# Altium schematic symbol library LED's.SchLib: 7 symbols
Pins are listed as number, name and electrical type; pins without a type are passive.

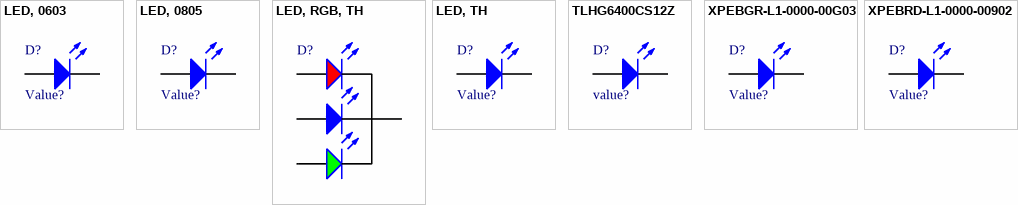
[diagram p0: symbols LED, 0603 to XPEBRD-L1-0000-00902]

## LED, 0603
designator D?, comment Value?
LED, 0603, SMD; TargetLibrary: RITRacing-LED's; Publisher: T.Tallo; Published: 22Oct2016; Status: Active; Value: Value?
footprint LED, 0603 (Generic 0603 SMD)
pins: 1 A, 2 K

## LED, 0805
designator D?, comment Value?
LED, 0805, SMD; TargetLibrary: RITRacing-LED's; Publisher: T.Tallo; Published: 22Oct2016; Status: Active; Value: Value?
footprint LED, 0603 (Generic 0603 SMD)
pins: 1 A, 2 K

## LED, RGB, TH
designator D?, comment RBG  (value not drawn)
LED, 5.9mm, TH; TargetLibrary: RITRacing-LED's; Publisher: T.Tallo; Published: 22Oct2016; Status: Active; Value: RBG
footprint LED, RGB, TH (Through Hole LED)
pins: 1 Red Anode, 2 Cathode, 3 Blue Anode, 4 Green Anode

## LED, TH
designator D?, comment Value?
LED, 5mm, TH; TargetLibrary: RITRacing-LED's; Publisher: T.Tallo; Published: 22Oct2016; Status: Active; Value: Value?
footprint LED, TH (Through Hole LED)
pins: 1 A, 2 K

## TLHG6400CS12Z
designator D?, comment value?
LED Uni-Color Green 565nm 2-Pin T-1 3/4 T/R; Manufacturer 1: Vishay Semiconductors; Manufacturer Part Number 1: TLHG6400CS12Z; Lens Style: Round,Domed,Diffused,Colored,Circular; Viewing Angle: 60°; Luminous Intensity: 10mcd; Forward Current: 30mA; Forward Voltage: 2.4V; Test Current: 10mA; Dominant Wavelength: 569nm; Number of Elements: 1; Power Dissipation: 100mW; Lens Transparency: Diffused; Reverse Voltage: 15V; Lens Size: 5mm; Supplier 1: Digi-Key; RoHS: Yes; Category: LEDs; Stock 1: 4186; Pricing 1: 1=0.46000, 10=0.28000, 100=0.16120 (USD); Mount: Through Hole; Case/Package: Radial; Number of Pins: 2; Color: Green; Min Operating Temperature: -40°C; Max Operating Temperature: 100°C; Packaging: Tape and Reel; Number of LEDs: 1; Length: 5.8mm; Height: 9mm; Depth: 5.8mm; Radiation Hardening: No; ComponentLink1URL: https://datasheet.ciiva.com/26262/tlhg640-26262876.pdf?src-supplier=Avnet+Europe; ComponentLink1Description: https://datasheet.ciiva.com/26262/tlhg640-26262876.pdf?src-supplier=Avnet+Europe
footprint LED, TH (Through Hole LED)
pins: 1 A, 2 K

## XPEBGR-L1-0000-00G03
designator D?, comment Value?
Cree Green LED, Surface Mount, 3W; TargetLibrary: RITRacing-LED's; Publisher: T.Tallo; Published: 22Oct2016; Status: Active; Value: Value?
footprint XP-E2 (Cree XP-E2 LED Package)
pins: 1 A, 2 K

## XPEBRD-L1-0000-00902
designator D?, comment Value?
Cree RED LED, Surface Mount, 3W; TargetLibrary: RITRacing-LED's; Publisher: T.Tallo; Published: 22Oct2016; Status: Active; Value: Value?
footprint XP-E2 (Cree XP-E2 LED Package)
pins: 1 A, 2 K